# Altium integrated library Common-Parts-Library.IntLib: 4 symbols
Pins are listed as number, name and electrical type; pins without a type are passive.

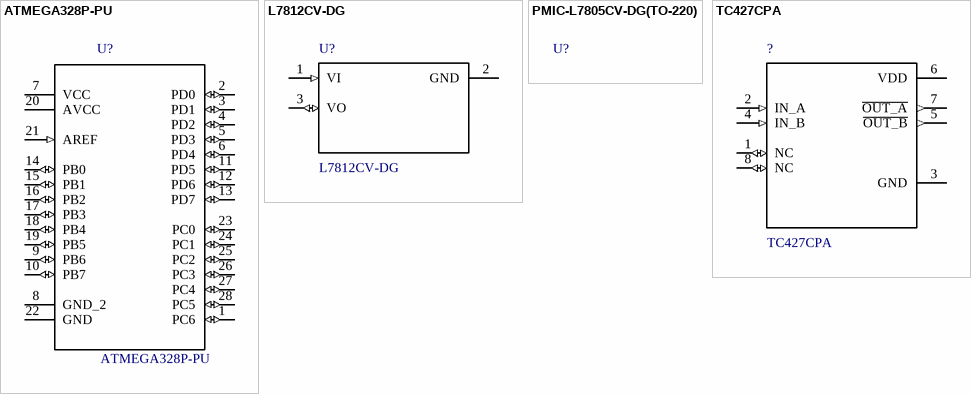
[diagram p0: symbols ATMEGA328P-PU to TC427CPA]

## ATMEGA328P-PU
designator U?
Value: *
footprint *DIP254P762X457-28
pins: 1 PC6 (io), 2 PD0 (io), 3 PD1 (io), 4 PD2 (io), 5 PD3 (io), 6 PD4 (io), 7 VCC (power), 8 GND_2, 9 PB6 (io), 10 PB7 (io), 11 PD5 (io), 12 PD6 (io), 13 PD7 (io), 14 PB0 (io), 15 PB1 (io), 16 PB2 (io), 17 PB3 (io), 18 PB4 (io), 19 PB5 (io), 20 AVCC (power), 21 AREF (in), 22 GND, 23 PC0 (io), 24 PC1 (io), 25 PC2 (io), 26 PC3 (io), 27 PC4 (io), 28 PC5 (io)

## L7812CV-DG
designator U?
Value: *
footprint *TO-220-3
pins: 1 VI (in), 2 GND (power), 3 VO (io)

## PMIC-L7805CV-DG(TO-220)
designator U?  (value not drawn)
Value: *
footprint *TO-220_PMIC-L7805CV-DG(TO-220)(Primary)

## TC427CPA
designator ?
Value: *
footprint *DIP787W46P254L927H533Q8
pins: 1 NC (io), 2 IN_A (in), 3 GND (power), 4 IN_B (in), 5 ~{OUT_B} (out), 6 VDD (power), 7 ~{OUT_A} (out), 8 NC (io)